# EAGLE library part THYRISTOR_SWITCH (library my_devices)
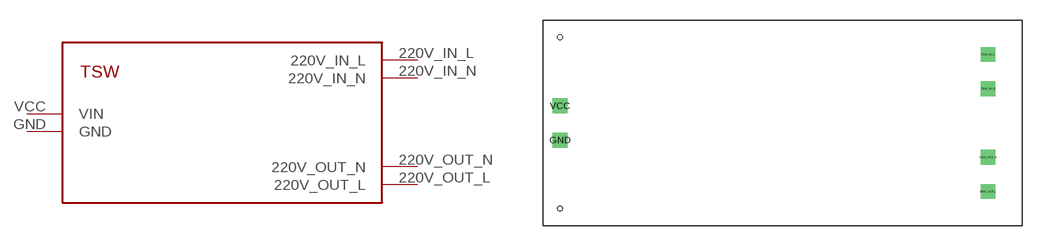
[diagram p1: symbol with the pads of THIRISTOR_SWITCH; footprint THIRISTOR_SWITCH]

Designator prefix TSW

## THYRISTOR_SWITCH  [THIRISTOR_SWITCH]
220V_IN_L  220V_IN_L  pwr
220V_IN_N  220V_IN_N  pwr
220V_OUT_L  220V_OUT_L  sup
220V_OUT_N  220V_OUT_N  sup
GND  GND  sup
VCC  VIN  in

## Footprint THIRISTOR_SWITCH (pad centres in mm)
drill 0.6 square: 220V_IN_L 25.4,5.08; 220V_IN_N 25.4,2.54; 220V_OUT_L 25.4,-5.08; 220V_OUT_N 25.4,-2.54; GND -6.35,-1.27; VCC -6.35,1.27
hole 0.35 at -6.35,6.35
hole 0.35 at -6.35,-6.35